# EAGLE library part EPM7064-J44 (library altera)
EPM7064 MAX 7000 family
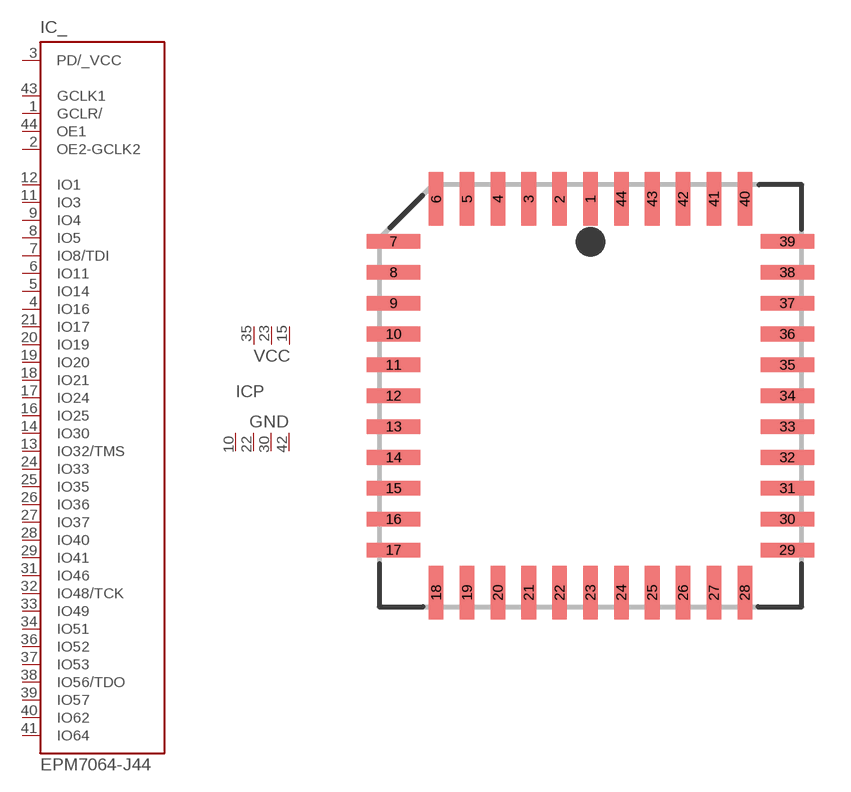
[diagram p2: symbol with the pads of PLCC44; footprint PLCC44]

Designator prefix IC; gates _=7064-44 P=PWR3-4

## EPM7064-J44  [PLCC44]
1  _:GCLR/  in
2  _:OE2-GCLK2  in
3  _:PD/_VCC  pas
4  _:IO16
5  _:IO14
6  _:IO11
7  _:IO8/TDI
8  _:IO5
9  _:IO4
10  P:GND  pwr
11  _:IO3
12  _:IO1
13  _:IO32/TMS
14  _:IO30
15  P:VCC  pwr
16  _:IO25
17  _:IO24
18  _:IO21
19  _:IO20
20  _:IO19
21  _:IO17
22  P:GND  pwr
23  P:VCC  pwr
24  _:IO33
25  _:IO35
26  _:IO36
27  _:IO37
28  _:IO40
29  _:IO41
30  P:GND  pwr
31  _:IO46
32  _:IO48/TCK
33  _:IO49
34  _:IO51
35  P:VCC  pwr
36  _:IO52
37  _:IO53
38  _:IO56/TDO
39  _:IO57
40  _:IO62
41  _:IO64
42  P:GND  pwr
43  _:GCLK1  in
44  _:OE1  in

## Footprint PLCC44 (pad centres in mm)
Plastic J-Lead Chip Carrier
smd 0.6 x 2.2: 1 0,8.1; 2 -1.27,8.1; 3 -2.54,8.1; 4 -3.81,8.1; 5 -5.08,8.1; 6 -6.35,8.1; 18 -6.35,-8.1; 19 -5.08,-8.1; 20 -3.81,-8.1; 21 -2.54,-8.1; 22 -1.27,-8.1; 23 0,-8.1; 24 1.27,-8.1; 25 2.54,-8.1; 26 3.81,-8.1; 27 5.08,-8.1; 28 6.35,-8.1; 40 6.35,8.1; 41 5.08,8.1; 42 3.81,8.1; 43 2.54,8.1; 44 1.27,8.1
smd 2.2 x 0.6: 7 -8.1,6.35; 8 -8.1,5.08; 9 -8.1,3.81; 10 -8.1,2.54; 11 -8.1,1.27; 12 -8.1,0; 13 -8.1,-1.27; 14 -8.1,-2.54; 15 -8.1,-3.81; 16 -8.1,-5.08; 17 -8.1,-6.35; 29 8.1,-6.35; 30 8.1,-5.08; 31 8.1,-3.81; 32 8.1,-2.54; 33 8.1,-1.27; 34 8.1,0; 35 8.1,1.27; 36 8.1,2.54; 37 8.1,3.81; 38 8.1,5.08; 39 8.1,6.35